# Altium schematic symbol library Switchcraft_113.SchLib: 1 symbol
Pins are listed as number, name and electrical type; pins without a type are passive.

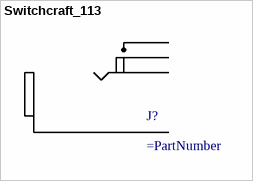
[diagram p0: symbol Switchcraft_113]

## Switchcraft_113
designator J?
pins: SLV, T, T, TS